# EAGLE library part W5100S (library WIZnet)
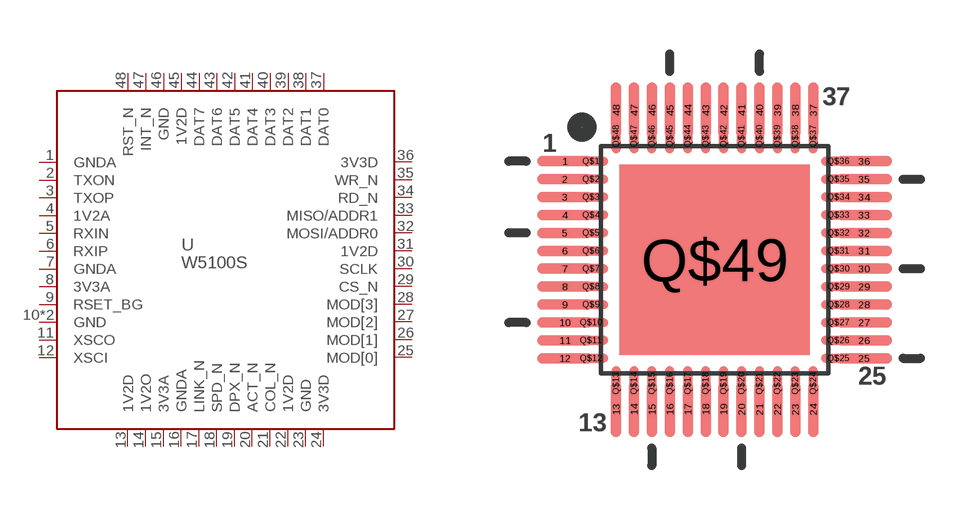
[diagram p9: symbol with the pads of W5100S; footprint W5100S]

Designator prefix U

## W5100S  [W5100S]
1  GNDA
2  TXON
3  TXOP
4  1V2A
5  RXIN
6  RXIP
7  GNDA
8  3V3A
9  RSET_BG
10  GND
11  XSCO
12  XSCI
13  1V2D
14  1V2O
15  3V3A
16  GNDA
17  LINK_N
18  SPD_N
19  DPX_N
20  ACT_N
21  COL_N
22  1V2D
23  GND
24  3V3D
25  MOD[0]
26  MOD[1]
27  MOD[2]
28  MOD[3]
29  CS_N
30  SCLK
31  1V2D
32  MOSI/ADDR0
33  MISO/ADDR1
34  RD_N
35  WR_N
36  3V3D
37  DAT0
38  DAT1
39  DAT2
40  DAT3
41  DAT4
42  DAT5
43  DAT6
44  DAT7
45  1V2D
46  GND
47  INT_N
48  RST_N
Q$1  Q$1
Q$2  Q$2
Q$3  Q$3
Q$4  Q$4
Q$5  Q$5
Q$6  Q$6
Q$7  Q$7
Q$8  Q$8
Q$9  Q$9
Q$10  Q$10
Q$11  Q$11
Q$12  Q$12
Q$13  Q$13
Q$14  Q$14
Q$15  Q$15
Q$16  Q$16
Q$17  Q$17
Q$18  Q$18
Q$19  Q$19
Q$20  Q$20
Q$21  Q$21
Q$22  Q$22
Q$23  Q$23
Q$24  Q$24
Q$25  Q$25
Q$26  Q$26
Q$27  Q$27
Q$28  Q$28
Q$29  Q$29
Q$30  Q$30
Q$31  Q$31
Q$32  Q$32
Q$33  Q$33
Q$34  Q$34
Q$35  Q$35
Q$36  Q$36
Q$37  Q$37
Q$38  Q$38
Q$39  Q$39
Q$40  Q$40
Q$41  Q$41
Q$42  Q$42
Q$43  Q$43
Q$44  Q$44
Q$45  Q$45
Q$46  Q$46
Q$47  Q$47
Q$48  Q$48
Q$49  GND

## Footprint W5100S (pad centres in mm)
smd 1.55 x 0.3: 1 -4.175,2.75; 2 -4.175,2.25; 3 -4.175,1.75; 4 -4.175,1.25; 5 -4.175,0.75; 6 -4.175,0.25; 7 -4.175,-0.25; 8 -4.175,-0.75; 9 -4.175,-1.25; 10 -4.175,-1.75; 11 -4.175,-2.25; 12 -4.175,-2.75; 25 4.175,-2.75; 26 4.175,-2.25; 27 4.175,-1.75; 28 4.175,-1.25; 29 4.175,-0.75; 30 4.175,-0.25; 31 4.175,0.25; 32 4.175,0.75; 33 4.175,1.25; 34 4.175,1.75; 35 4.175,2.25; 36 4.175,2.75
smd 0.3 x 1.55: 13 -2.75,-4.175; 14 -2.25,-4.175; 15 -1.75,-4.175; 16 -1.25,-4.175; 17 -0.75,-4.175; 18 -0.25,-4.175; 19 0.25,-4.175; 20 0.75,-4.175; 21 1.25,-4.175; 22 1.75,-4.175; 23 2.25,-4.175; 24 2.75,-4.175; 37 2.75,4.175; 38 2.25,4.175; 39 1.75,4.175; 40 1.25,4.175; 41 0.75,4.175; 42 0.25,4.175; 43 -0.25,4.175; 44 -0.75,4.175; 45 -1.25,4.175; 46 -1.75,4.175; 47 -2.25,4.175; 48 -2.75,4.175
smd 0.95 x 0.25: Q$1 -3.45,2.75; Q$2 -3.45,2.25; Q$3 -3.45,1.75; Q$4 -3.45,1.25; Q$5 -3.45,0.75; Q$6 -3.45,0.25; Q$7 -3.45,-0.25; Q$8 -3.45,-0.75; Q$9 -3.45,-1.25; Q$10 -3.45,-1.75; Q$11 -3.45,-2.25; Q$12 -3.45,-2.75; Q$25 3.45,-2.75; Q$26 3.45,-2.25; Q$27 3.45,-1.75; Q$28 3.45,-1.25; Q$29 3.45,-0.75; Q$30 3.45,-0.25; Q$31 3.45,0.25; Q$32 3.45,0.75; Q$33 3.45,1.25; Q$34 3.45,1.75; Q$35 3.45,2.25; Q$36 3.45,2.75
smd 0.25 x 0.95: Q$13 -2.75,-3.45; Q$14 -2.25,-3.45; Q$15 -1.75,-3.45; Q$16 -1.25,-3.45; Q$17 -0.75,-3.45; Q$18 -0.25,-3.45; Q$19 0.25,-3.45; Q$20 0.75,-3.45; Q$21 1.25,-3.45; Q$22 1.75,-3.45; Q$23 2.25,-3.45; Q$24 2.75,-3.45; Q$37 2.75,3.45; Q$38 2.25,3.45; Q$39 1.75,3.45; Q$40 1.25,3.45; Q$41 0.75,3.45; Q$42 0.25,3.45; Q$43 -0.25,3.45; Q$44 -0.75,3.45; Q$45 -1.25,3.45; Q$46 -1.75,3.45; Q$47 -2.25,3.45; Q$48 -2.75,3.45
smd 5.3 x 5.3: Q$49 0,0